# EAGLE library part ADS1118IDGST (library SamacSys_Parts)
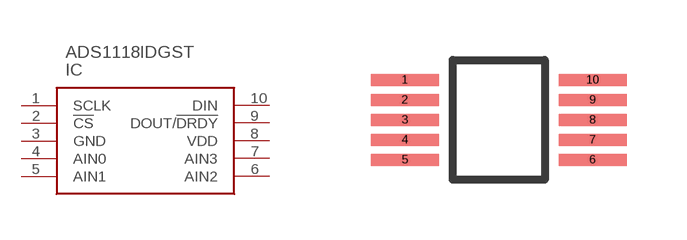
[diagram p17: symbol with the pads of VSSOP-10; footprint VSSOP-10]

Designator prefix IC

## ADS1118IDGST  [VSSOP-10]
1  SCLK  in
2  !CS  in
3  GND  pwr
4  AIN0  in
5  AIN1  in
6  AIN2  in
7  AIN3  in
8  VDD  pwr
9  DOUT/!DRDY  out
10  DIN  in

## Footprint VSSOP-10 (pad centres in mm)
DGS (S-PDSO-G10)
smd 1.7 x 0.3: 1 -2.35,1; 2 -2.35,0.5; 3 -2.35,0; 4 -2.35,-0.5; 5 -2.35,-1; 6 2.35,-1; 7 2.35,-0.5; 8 2.35,0; 9 2.35,0.5; 10 2.35,1